# EAGLE library part NE5534_PCB (library op-amp)
OP-AMP
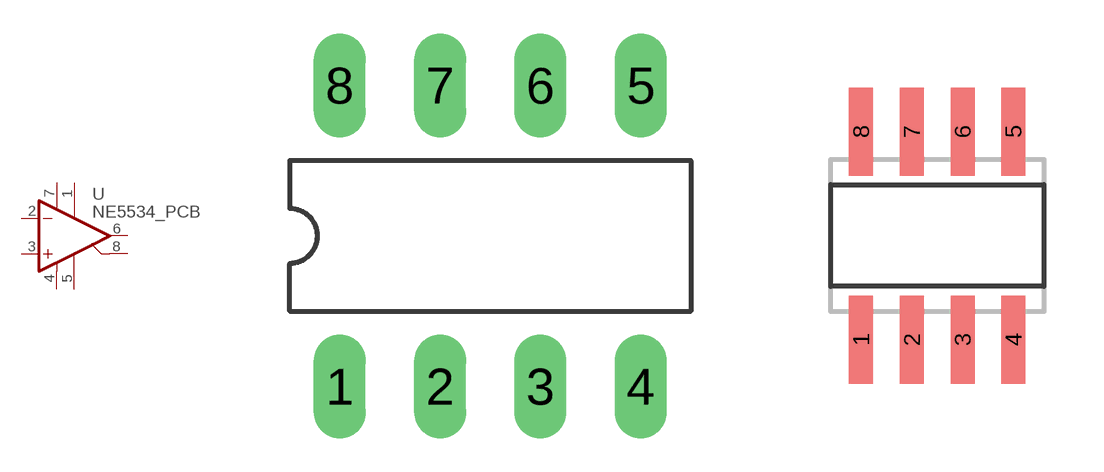
[diagram p17: symbol with the pads of DIL08; footprints DIL08, SO08]

Designator prefix U

## NE5534_PCBN (P1I: o)  [DIL08]
1  BAL  pas
2  -IN  in
3  +IN  in
4  V-  pwr
5  CMP  pas
6  OUT  out
7  V+  pwr
8  BAL/CMP  pas

## NE5534_PCBD (P1I: o)  [SO08]
Pads as for DIL08

## NE5534_PCBPS (P1I: o)  [SOP08]
Pads as for DIL08

## Footprint DIL08 (pad centres in mm)
Dual In Line Package
drill 0.813 long: 1 -3.81,-3.81; 2 -1.27,-3.81; 3 1.27,-3.81; 4 3.81,-3.81; 5 3.81,3.81; 6 1.27,3.81; 7 -1.27,3.81; 8 -3.81,3.81

## Footprint SO08 (pad centres in mm)
SMALL OUTLINE INTEGRATED CIRCUIT body 3.9 mm/JEDEC MS-012AA
smd 0.6 x 2.2: 1 -1.905,-2.6; 2 -0.635,-2.6; 3 0.635,-2.6; 4 1.905,-2.6; 5 1.905,2.6; 6 0.635,2.6; 7 -0.635,2.6; 8 -1.905,2.6

## Footprint SOP08 (pad centres in mm)
SMALL OUTLINE INTEGRATED CIRCUIT 200 MIL BODY WIDTH (5.6MM X 6.9MM)
smd 0.6 x 2.2: 1 -1.905,-3.53; 2 -0.635,-3.53; 3 0.635,-3.53; 4 1.905,-3.53; 5 1.905,3.53; 6 0.635,3.53; 7 -0.635,3.53; 8 -1.905,3.53